# EAGLE library part LSM6DS3 (library LSM6DS3)
iNEMO inertial module: 3D accelerometer and 3D gyroscope
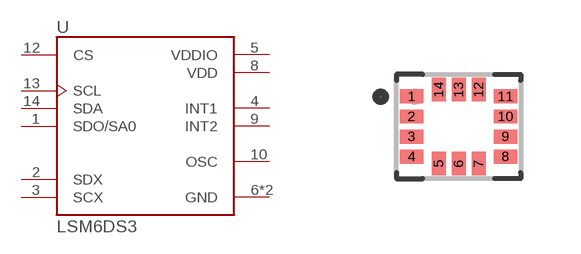
[diagram p0: symbol with the pads of PQFN50P300X250X86-14N; footprint PQFN50P300X250X86-14N]

Designator prefix U

## LSM6DS3 (Availability: Unavailable; Description: LSM6DS33 - Accelerometer, Gyroscope, 6 Axis Sensor Evaluation Board; MF: STMicroelectronics; MP: LSM6DS3; Package: LGA-14 STMicroelectronics; Price: None)  [PQFN50P300X250X86-14N]
1  SDO/SA0
2  SDX
3  SCX
4  INT1  out
5  VDDIO  pwr
6  GND  pwr
7  GND  pwr
8  VDD  pwr
9  INT2  out
10  OSC
12  CS  in
13  SCL  in
14  SDA

## Footprint PQFN50P300X250X86-14N (pad centres in mm)
smd 0.58 x 0.35: 1 -1.175,0.75; 2 -1.175,0.25; 3 -1.175,-0.25; 4 -1.175,-0.75; 8 1.175,-0.75; 9 1.175,-0.25; 10 1.175,0.25; 11 1.175,0.75
smd 0.35 x 0.58: 5 -0.5,-0.925; 6 0,-0.925; 7 0.5,-0.925; 12 0.5,0.925; 13 0,0.925; 14 -0.5,0.925